# Altium schematic symbol library CL32B226KAJNNNE.SchLib: 1 symbol
Pins are listed as number, name and electrical type; pins without a type are passive.

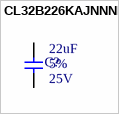
[diagram p0: symbol CL32B226KAJNNNE]

## CL32B226KAJNNNE
designator C?  Capacitence: 22uF  Rated Voltage: 25V  Tolerance: 5%  (hidden comment: CL32B226KAJNNNE)
CAP CER 22UF 25V X7R 1210; MFR: Samsung Electro-Mechanics; PN: CL32B226KAJNNNE; ComponentLink1Description: Datasheet; ComponentLink1URL: https://media.digikey.com/pdf/Data%20Sheets/Samsung%20PDFs/CL32B226KAJNNNE_Spec.pdf; Temperature Coefficient: X7R; Package: 1210; Footprint: C1210; Supplier Part Number 1: 1276-3392-1-ND; Supplier 1: Digi-Key
footprint C1210_GREAT_22UF (A generic C1210 footprint (>22uF))
pins: 1, 2